# Altium footprint library DIP Switch.PcbLib: 5 footprints
Each footprint in its own frame and in the unit in brackets; x right, y up, seen from the top. Pads: shape width x height; smd on the part's side, far side on the other; paste and mask are expansions set on the pad; w line width, h text height; cw(c..) or ccw(c..) is an arc to the next point about the centre after c.
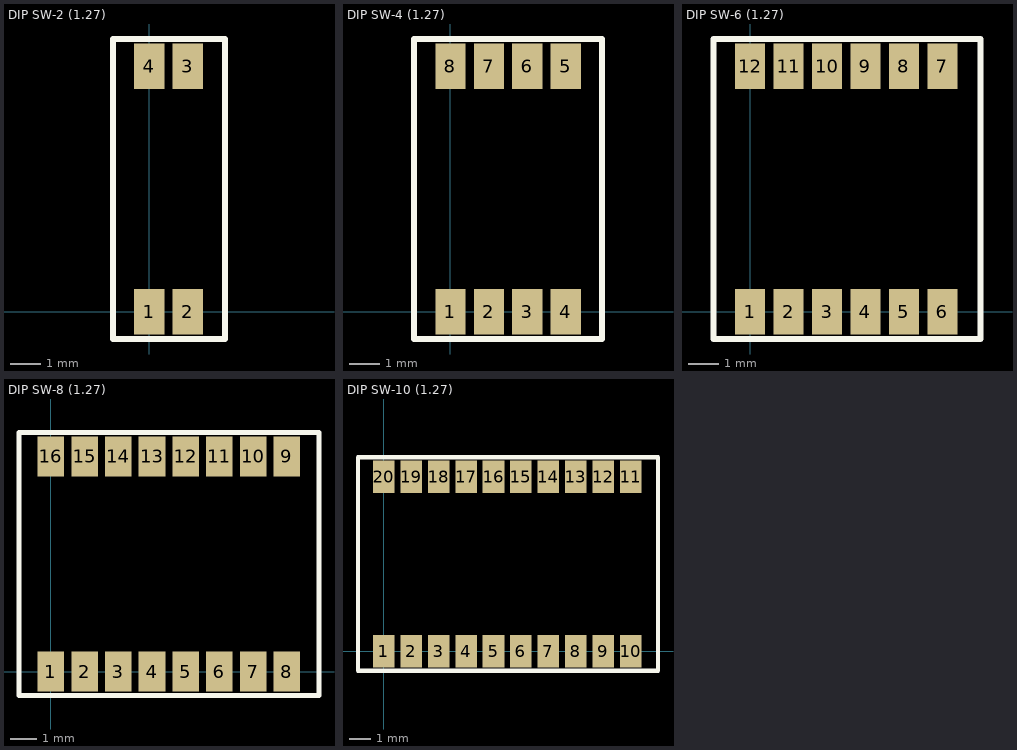
[diagram p0: the footprints below, top view; thin cyan lines are the x and y axes]

## DIP SW-2 (1.27) [mm]
pads (4):
  rect 1x1.5 smd: 1(0,0) 2(1.27,0) 3(1.27,8.1) 4(0,8.1)
Top Overlay:
  lines w0.2: -1.2,-0.9 -1.2,9 2.5,9 2.5,-0.9 -1.2,-0.9
3D body: height 2.65, standoff 0, extent -1.209,-0.247 2.501,8.193

## DIP SW-4 (1.27) [mm]
pads (8):
  rect 1x1.5 smd: 1(0,0) 2(1.27,0) 3(2.54,0) 4(3.81,0) 5(3.81,8.1) 6(2.54,8.1) 7(1.27,8.1) 8(0,8.1)
Top Overlay:
  lines w0.2: -1.2,-0.9 -1.2,9 5,9 5,-0.9 -1.2,-0.9
3D body: height 2.65, standoff 0, extent -1.225,-0.12 5.025,8.32

## DIP SW-6 (1.27) [mm]
pads (12):
  rect 1x1.5 smd: 1(0,0) 2(1.27,0) 3(2.54,0) 4(3.81,0) 5(5.08,0) 6(6.35,0) 7(6.35,8.1) 8(5.08,8.1) 9(3.81,8.1) 10(2.54,8.1) 11(1.27,8.1) 12(0,8.1)
Top Overlay:
  lines w0.2: -1.2,-0.9 -1.2,9 7.6,9 7.6,-0.9 -1.2,-0.9
3D body: height 2.65, standoff 0, extent -1.195,-0.12 7.595,8.32

## DIP SW-8 (1.27) [mm]
pads (16):
  rect 1x1.5 smd: 1(0,0) 2(1.27,0) 3(2.54,0) 4(3.81,0) 5(5.08,0) 6(6.35,0) 7(7.62,0) 8(8.89,0) 9(8.89,8.1) 10(7.62,8.1) 11(6.35,8.1) 12(5.08,8.1) 13(3.81,8.1) 14(2.54,8.1) 15(1.27,8.1) 16(0,8.1)
Top Overlay:
  lines w0.2: -1.2,-0.9 10.1,-0.9 10.1,9 -1.2,9 -1.2,-0.9
3D body: height 2.65, standoff 0, extent -1.165,-0.22 10.165,8.22

## DIP SW-10 (1.27) [mm]
pads (20):
  rect 1x1.5 smd: 1(0,0) 2(1.27,0) 3(2.54,0) 4(3.81,0) 5(5.08,0) 6(6.35,0) 7(7.62,0) 8(8.89,0) 9(10.16,0) 10(11.43,0) 11(11.43,8.1) 12(10.16,8.1) 13(8.89,8.1) 14(7.62,8.1) 15(6.35,8.1) 16(5.08,8.1) 17(3.81,8.1) 18(2.54,8.1) 19(1.27,8.1) 20(0,8.1)
Top Overlay:
  lines w0.2: -1.2,-0.9 -1.2,9 12.7,9 12.7,-0.9 -1.2,-0.9
3D body: height 2.65, standoff 0, extent -1.135,-0.12 12.735,8.32